# Altium integrated library LIB_Diodes.IntLib: 54 symbols
Pins are listed as number, name and electrical type; pins without a type are passive.

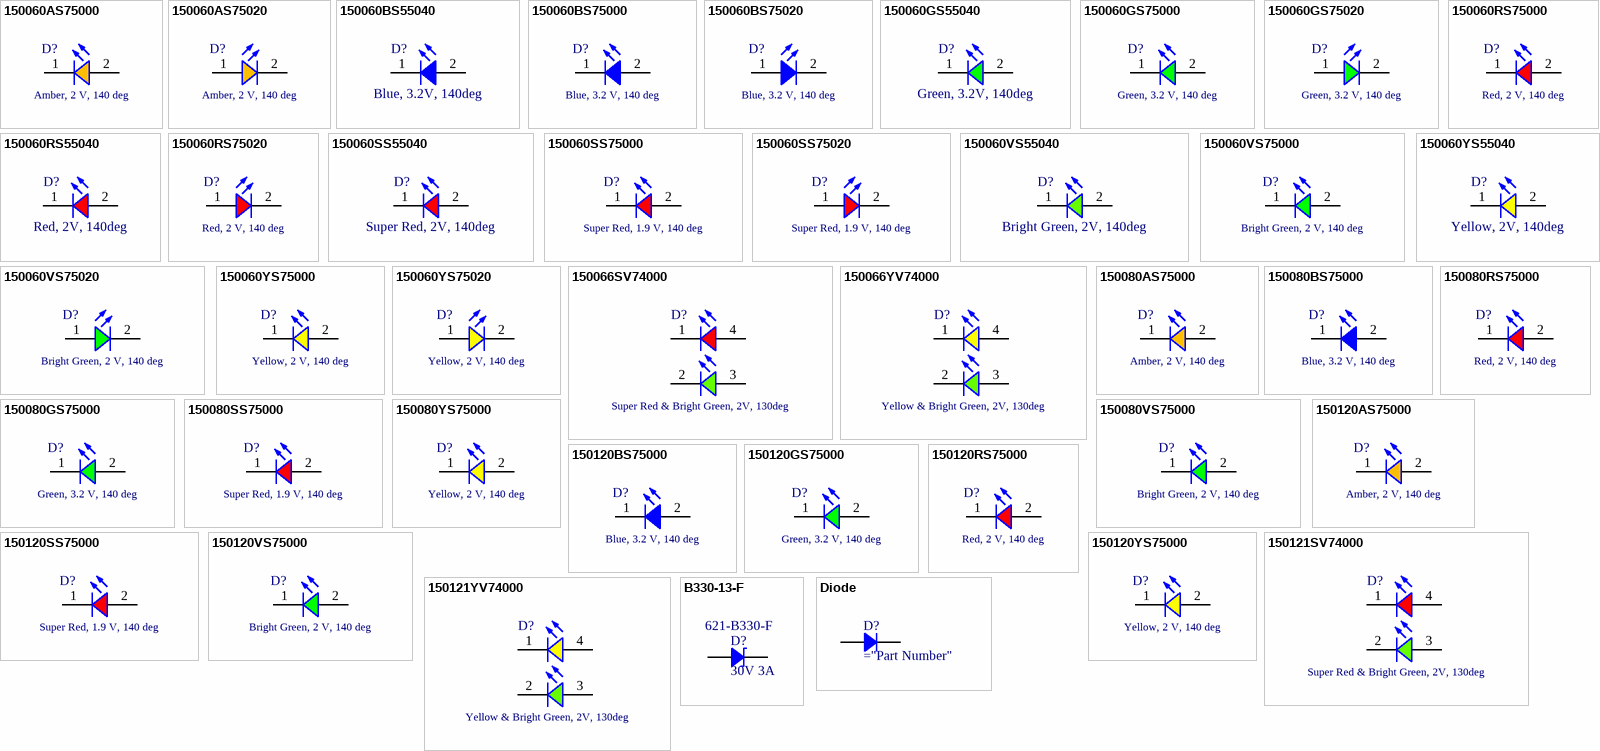
[diagram p0: symbols 150060AS75000 to Diode]

## 150060AS75000
designator D?, comment Amber, 2 V, 140 deg
SMT Mono-color Chip LED Waterclear WL-SMCW, size 0603, Amber, 2 V, 140 deg, 130 mcd; Part Number: 150060AS75000; Forward Voltage: 2 V; Viewing Angle: 140 deg; Peak Wavelength: 610 nm; Dominant Wavelength: 605 nm; Luminous Intensity: 130 mcd; Chip Technology: AlInGaP; ComponentLink1Description: Manufacturer; ComponentLink1URL: http://www.we-online.de; ComponentLink2Description: Datasheet; ComponentLink2URL: https://katalog.we-online.de/led/datasheet/150060AS75000.pdf; Published Date: November 2018; Publisher: Wurth Elektronik; Size: 0603; Operating Temperature: -40 to 85 degC; Emitting Color: Amber; Mounting Technology: SMT; Packaging: Tape and Reel
footprint WL-SMCW_0603_H=0.7
pins: 1 K, 2 A

## 150060AS75020
designator D?, comment Amber, 2 V, 140 deg
SMT Mono-color Chip LED Waterclear WL-SMCW, size 0603, Amber, 2 V, 140 deg, 140 mcd; Part Number: 150060AS75020; Forward Voltage: 2 V; Viewing Angle: 140 deg; Peak Wavelength: 610 nm; Dominant Wavelength: 605 nm; Luminous Intensity: 140 mcd; Chip Technology: AlInGaP; ComponentLink1Description: Manufacturer; ComponentLink1URL: http://www.we-online.de; ComponentLink2Description: Datasheet; ComponentLink2URL: https://katalog.we-online.de/led/datasheet/150060AS75020.pdf; Published Date: November 2018; Publisher: Wurth Elektronik; Size: 0603; Operating Temperature: -40 to 85 degC; Emitting Color: Amber; Mounting Technology: SMT; Packaging: Tape and Reel
footprint WL-SMCW_0603_H=0.25
pins: 1 A, 2 K

## 150060BS55040
designator D?, comment Blue, 3.2V, 140deg
WL-SMCD SMT Mono-color Chip LED Diffused, size 0603, Blue, 3.2V, 140deg; Part Number: 150060BS55040; Luminous Intensity: 80mcd; Dominant Wavelength: 470nm; Peak Wavelength: 465nm; Chip Technology: InGaN; ComponentLink1Description: Manufacturer; ComponentLink1URL: http://www.we-online.de; ComponentLink2Description: Datasheet; ComponentLink2URL: https://katalog.we-online.de/led/datasheet/150060BS55040.pdf; Emitting Color: Blue; Operating Temperature: -40 to +85degC; Mounting Technology: SMT; Forward Voltage: 3.2V; Packaging: Tape and Reel; Published Date: October 2019; Publisher: Wurth Elektronik; Size: 0603; Viewing Angle: 140deg
footprint WL-SMCD_0603
pins: 1 K, 2 A

## 150060BS75000
designator D?, comment Blue, 3.2 V, 140 deg
SMT Mono-color Chip LED Waterclear WL-SMCW, size 0603, Blue, 3.2 V, 140 deg, 145 mcd; Part Number: 150060BS75000; Forward Voltage: 3.2 V; Viewing Angle: 140 deg; Peak Wavelength: 465 nm; Dominant Wavelength: 470 nm; Luminous Intensity: 145 mcd; Chip Technology: InGaN; ComponentLink1Description: Manufacturer; ComponentLink1URL: http://www.we-online.de; ComponentLink2Description: Datasheet; ComponentLink2URL: https://katalog.we-online.de/led/datasheet/150060BS75000.pdf; Published Date: November 2018; Publisher: Wurth Elektronik; Size: 0603; Operating Temperature: -40 to 85 degC; Emitting Color: Blue; Mounting Technology: SMT; Packaging: Tape and Reel
footprint WL-SMCW_0603_H=0.7
pins: 1 K, 2 A

## 150060BS75020
designator D?, comment Blue, 3.2 V, 140 deg
SMT Mono-color Chip LED Waterclear WL-SMCW, size 0603, Blue, 3.2 V, 140 deg, 150 mcd; Part Number: 150060BS75020; Forward Voltage: 3.2 V; Viewing Angle: 140 deg; Peak Wavelength: 465 nm; Dominant Wavelength: 470 nm; Luminous Intensity: 150 mcd; Chip Technology: InGaN; ComponentLink1Description: Manufacturer; ComponentLink1URL: http://www.we-online.de; ComponentLink2Description: Datasheet; ComponentLink2URL: https://katalog.we-online.de/led/datasheet/150060BS75020.pdf; Published Date: November 2018; Publisher: Wurth Elektronik; Size: 0603; Operating Temperature: -40 to 85 degC; Emitting Color: Blue; Mounting Technology: SMT; Packaging: Tape and Reel
footprint WL-SMCW_0603_H=0.25
pins: 1 A, 2 K

## 150060GS55040
designator D?, comment Green, 3.2V, 140deg
WL-SMCD SMT Mono-color Chip LED Diffused, size 0603, Green, 3.2V, 140deg; Part Number: 150060GS55040; Luminous Intensity: 430mcd; Dominant Wavelength: 525nm; Peak Wavelength: 520nm; Chip Technology: InGaN; ComponentLink1Description: Manufacturer; ComponentLink1URL: http://www.we-online.de; ComponentLink2Description: Datasheet; ComponentLink2URL: https://katalog.we-online.de/led/datasheet/150060GS55040.pdf; Emitting Color: Green; Operating Temperature: -40 to +85degC; Mounting Technology: SMT; Forward Voltage: 3.2V; Packaging: Tape and Reel; Published Date: October 2019; Publisher: Wurth Elektronik; Size: 0603; Viewing Angle: 140deg
footprint WL-SMCD_0603
pins: 1 K, 2 A

## 150060GS75000
designator D?, comment Green, 3.2 V, 140 deg
SMT Mono-color Chip LED Waterclear WL-SMCW, size 0603, Green, 3.2 V, 140 deg, 430 mcd; Part Number: 150060GS75000; Forward Voltage: 3.2 V; Viewing Angle: 140 deg; Peak Wavelength: 515 nm; Dominant Wavelength: 525 nm; Luminous Intensity: 430 mcd; Chip Technology: InGaN; ComponentLink1Description: Manufacturer; ComponentLink1URL: http://www.we-online.de; ComponentLink2Description: Datasheet; ComponentLink2URL: https://katalog.we-online.de/led/datasheet/150060GS75000.pdf; Published Date: November 2018; Publisher: Wurth Elektronik; Size: 0603; Operating Temperature: -40 to 85 degC; Emitting Color: Green; Mounting Technology: SMT; Packaging: Tape and Reel
footprint WL-SMCW_0603_H=0.7
pins: 1 K, 2 A

## 150060GS75020
designator D?, comment Green, 3.2 V, 140 deg
SMT Mono-color Chip LED Waterclear WL-SMCW, size 0603, Green, 3.2 V, 140 deg, 700 mcd; Part Number: 150060GS75020; Forward Voltage: 3.2 V; Viewing Angle: 140 deg; Peak Wavelength: 515 nm; Dominant Wavelength: 525 nm; Luminous Intensity: 700 mcd; Chip Technology: InGaN; ComponentLink1Description: Manufacturer; ComponentLink1URL: http://www.we-online.de; ComponentLink2Description: Datasheet; ComponentLink2URL: https://katalog.we-online.de/led/datasheet/150060GS75020.pdf; Published Date: November 2018; Publisher: Wurth Elektronik; Size: 0603; Operating Temperature: -40 to 85 degC; Emitting Color: Green; Mounting Technology: SMT; Packaging: Tape and Reel
footprint WL-SMCW_0603_H=0.25
pins: 1 A, 2 K

## 150060RS55040
designator D?, comment Red, 2V, 140deg
WL-SMCD SMT Mono-color Chip LED Diffused, size 0603, Red, 2V, 140deg; Part Number: 150060RS55040; Luminous Intensity: 90mcd; Dominant Wavelength: 624nm; Peak Wavelength: 632nm; Chip Technology: AlInGaP; ComponentLink1Description: Manufacturer; ComponentLink1URL: http://www.we-online.de; ComponentLink2Description: Datasheet; ComponentLink2URL: https://katalog.we-online.de/led/datasheet/150060RS55040.pdf; Emitting Color: Red; Operating Temperature: -40 to +85degC; Mounting Technology: SMT; Forward Voltage: 2V; Packaging: Tape and Reel; Published Date: October 2019; Publisher: Wurth Elektronik; Size: 0603; Viewing Angle: 140deg
footprint WL-SMCD_0603
pins: 1 K, 2 A

## 150060RS75000
designator D?, comment Red, 2 V, 140 deg
SMT Mono-color Chip LED Waterclear WL-SMCW, size 0603, Red, 2 V, 140 deg, 250 mcd; Part Number: 150060RS75000; Forward Voltage: 2 V; Viewing Angle: 140 deg; Peak Wavelength: 630 nm; Dominant Wavelength: 625 nm; Luminous Intensity: 250 mcd; Chip Technology: AlInGaP; ComponentLink1Description: Manufacturer; ComponentLink1URL: http://www.we-online.de; ComponentLink2Description: Datasheet; ComponentLink2URL: https://katalog.we-online.de/led/datasheet/150060RS75000.pdf; Published Date: November 2018; Publisher: Wurth Elektronik; Size: 0603; Operating Temperature: -40 to 85 degC; Emitting Color: Red; Mounting Technology: SMT; Packaging: Tape and Reel
footprint WL-SMCW_0603_H=0.7
pins: 1 K, 2 A

## 150060RS75020
designator D?, comment Red, 2 V, 140 deg
SMT Mono-color Chip LED Waterclear WL-SMCW, size 0603, Red, 2 V, 140 deg, 100 mcd; Part Number: 150060RS75020; Forward Voltage: 2 V; Viewing Angle: 140 deg; Peak Wavelength: 630 nm; Dominant Wavelength: 625 nm; Luminous Intensity: 100 mcd; Chip Technology: AlInGaP; ComponentLink1Description: Manufacturer; ComponentLink1URL: http://www.we-online.de; ComponentLink2Description: Datasheet; ComponentLink2URL: https://katalog.we-online.de/led/datasheet/150060RS75020.pdf; Published Date: November 2018; Publisher: Wurth Elektronik; Size: 0603; Operating Temperature: -40 to 85 degC; Emitting Color: Red; Mounting Technology: SMT; Packaging: Tape and Reel
footprint WL-SMCW_0603_H=0.25
pins: 1 A, 2 K

## 150060SS55040
designator D?, comment Super Red, 2V, 140deg
WL-SMCD SMT Mono-color Chip LED Diffused, size 0603, Super Red, 2V, 140deg; Part Number: 150060SS55040; Luminous Intensity: 70mcd; Dominant Wavelength: 630nm; Peak Wavelength: 645nm; Chip Technology: AlInGaP; ComponentLink1Description: Manufacturer; ComponentLink1URL: http://www.we-online.de; ComponentLink2Description: Datasheet; ComponentLink2URL: https://katalog.we-online.de/led/datasheet/150060SS55040.pdf; Emitting Color: Super Red; Operating Temperature: -40 to +85degC; Mounting Technology: SMT; Forward Voltage: 2V; Packaging: Tape and Reel; Published Date: October 2019; Publisher: Wurth Elektronik; Size: 0603; Viewing Angle: 140deg
footprint WL-SMCD_0603
pins: 1 K, 2 A

## 150060SS75000
designator D?, comment Super Red, 1.9 V, 140 deg
SMT Mono-color Chip LED Waterclear WL-SMCW, size 0603, Super Red, 1.9 V, 140 deg, 60 mcd; Part Number: 150060SS75000; Forward Voltage: 1.9 V; Viewing Angle: 140 deg; Peak Wavelength: 645 nm; Dominant Wavelength: 630 nm; Luminous Intensity: 60 mcd; Chip Technology: AlInGaP; ComponentLink1Description: Manufacturer; ComponentLink1URL: http://www.we-online.de; ComponentLink2Description: Datasheet; ComponentLink2URL: https://katalog.we-online.de/led/datasheet/150060SS75000.pdf; Published Date: November 2018; Publisher: Wurth Elektronik; Size: 0603; Operating Temperature: -40 to 85 degC; Emitting Color: Super Red; Mounting Technology: SMT; Packaging: Tape and Reel
footprint WL-SMCW_0603_H=0.7
pins: 1 K, 2 A

## 150060SS75020
designator D?, comment Super Red, 1.9 V, 140 deg
SMT Mono-color Chip LED Waterclear WL-SMCW, size 0603, Super Red, 1.9 V, 140 deg, 70 mcd; Part Number: 150060SS75020; Forward Voltage: 1.9 V; Viewing Angle: 140 deg; Peak Wavelength: 645 nm; Dominant Wavelength: 630 nm; Luminous Intensity: 70 mcd; Chip Technology: AlInGaP; ComponentLink1Description: Manufacturer; ComponentLink1URL: http://www.we-online.de; ComponentLink2Description: Datasheet; ComponentLink2URL: https://katalog.we-online.de/led/datasheet/150060SS75020.pdf; Published Date: November 2018; Publisher: Wurth Elektronik; Size: 0603; Operating Temperature: -40 to 85 degC; Emitting Color: Super Red; Mounting Technology: SMT; Packaging: Tape and Reel
footprint WL-SMCW_0603_H=0.25
pins: 1 A, 2 K

## 150060VS55040
designator D?, comment Bright Green, 2V, 140deg
WL-SMCD SMT Mono-color Chip LED Diffused, size 0603, Bright Green, 2V, 140deg; Part Number: 150060VS55040; Luminous Intensity: 60mcd; Dominant Wavelength: 573nm; Peak Wavelength: 575nm; Chip Technology: AlInGaP; ComponentLink1Description: Manufacturer; ComponentLink1URL: http://www.we-online.de; ComponentLink2Description: Datasheet; ComponentLink2URL: https://katalog.we-online.de/led/datasheet/150060VS55040.pdf; Emitting Color: Bright Green; Operating Temperature: -40 to +85degC; Mounting Technology: SMT; Forward Voltage: 2V; Packaging: Tape and Reel; Published Date: October 2019; Publisher: Wurth Elektronik; Size: 0603; Viewing Angle: 140deg
footprint WL-SMCD_0603
pins: 1 K, 2 A

## 150060VS75000
designator D?, comment Bright Green, 2 V, 140 deg
SMT Mono-color Chip LED Waterclear WL-SMCW, size 0603, Bright Green, 2 V, 140 deg, 40 mcd; Part Number: 150060VS75000; Forward Voltage: 2 V; Viewing Angle: 140 deg; Peak Wavelength: 572 nm; Dominant Wavelength: 570 nm; Luminous Intensity: 40 mcd; Chip Technology: AlInGaP; ComponentLink1Description: Manufacturer; ComponentLink1URL: http://www.we-online.de; ComponentLink2Description: Datasheet; ComponentLink2URL: https://katalog.we-online.de/led/datasheet/150060VS75000.pdf; Published Date: November 2018; Publisher: Wurth Elektronik; Size: 0603; Operating Temperature: -40 to 85 degC; Emitting Color: Bright Green; Mounting Technology: SMT; Packaging: Tape and Reel
footprint WL-SMCW_0603_H=0.7
pins: 1 K, 2 A

## 150060VS75020
designator D?, comment Bright Green, 2 V, 140 deg
SMT Mono-color Chip LED Waterclear WL-SMCW, size 0603, Bright Green, 2 V, 140 deg, 50 mcd; Part Number: 150060VS75020; Forward Voltage: 2 V; Viewing Angle: 140 deg; Peak Wavelength: 572 nm; Dominant Wavelength: 570 nm; Luminous Intensity: 50 mcd; Chip Technology: AlInGaP; ComponentLink1Description: Manufacturer; ComponentLink1URL: http://www.we-online.de; ComponentLink2Description: Datasheet; ComponentLink2URL: https://katalog.we-online.de/led/datasheet/150060VS75020.pdf; Published Date: November 2018; Publisher: Wurth Elektronik; Size: 0603; Operating Temperature: -40 to 85 degC; Emitting Color: Bright Green; Mounting Technology: SMT; Packaging: Tape and Reel
footprint WL-SMCW_0603_H=0.25
pins: 1 A, 2 K

## 150060YS55040
designator D?, comment Yellow, 2V, 140deg
WL-SMCD SMT Mono-color Chip LED Diffused, size 0603, Yellow, 2V, 140deg; Part Number: 150060YS55040; Luminous Intensity: 100mcd; Dominant Wavelength: 589nm; Peak Wavelength: 591nm; Chip Technology: AlInGaP; ComponentLink1Description: Manufacturer; ComponentLink1URL: http://www.we-online.de; ComponentLink2Description: Datasheet; ComponentLink2URL: https://katalog.we-online.de/led/datasheet/150060YS55040.pdf; Emitting Color: Yellow; Operating Temperature: -40 to +85degC; Mounting Technology: SMT; Forward Voltage: 2V; Packaging: Tape and Reel; Published Date: October 2019; Publisher: Wurth Elektronik; Size: 0603; Viewing Angle: 140deg
footprint WL-SMCD_0603
pins: 1 K, 2 A

## 150060YS75000
designator D?, comment Yellow, 2 V, 140 deg
SMT Mono-color Chip LED Waterclear WL-SMCW, size 0603, Yellow, 2 V, 140 deg, 120 mcd; Part Number: 150060YS75000; Forward Voltage: 2 V; Viewing Angle: 140 deg; Peak Wavelength: 595 nm; Dominant Wavelength: 590 nm; Luminous Intensity: 120 mcd; Chip Technology: AlInGaP; ComponentLink1Description: Manufacturer; ComponentLink1URL: http://www.we-online.de; ComponentLink2Description: Datasheet; ComponentLink2URL: https://katalog.we-online.de/led/datasheet/150060YS75000.pdf; Published Date: November 2018; Publisher: Wurth Elektronik; Size: 0603; Operating Temperature: -40 to 85 degC; Emitting Color: Yellow; Mounting Technology: SMT; Packaging: Tape and Reel
footprint WL-SMCW_0603_H=0.7
pins: 1 K, 2 A

## 150060YS75020
designator D?, comment Yellow, 2 V, 140 deg
SMT Mono-color Chip LED Waterclear WL-SMCW, size 0603, Yellow, 2 V, 140 deg, 130 mcd; Part Number: 150060YS75020; Forward Voltage: 2 V; Viewing Angle: 140 deg; Peak Wavelength: 595 nm; Dominant Wavelength: 590 nm; Luminous Intensity: 130 mcd; Chip Technology: AlInGaP; ComponentLink1Description: Manufacturer; ComponentLink1URL: http://www.we-online.de; ComponentLink2Description: Datasheet; ComponentLink2URL: https://katalog.we-online.de/led/datasheet/150060YS75020.pdf; Published Date: November 2018; Publisher: Wurth Elektronik; Size: 0603; Operating Temperature: -40 to 85 degC; Emitting Color: Yellow; Mounting Technology: SMT; Packaging: Tape and Reel
footprint WL-SMCW_0603_H=0.25
pins: 1 A, 2 K

## 150066SV74000
designator D?, comment Super Red & Bright Green, 2V, 130deg
WL-SBCW SMD Bi-color Chip LED Waterclear, size 0606, Super Red & Bright Green, 2V, 130deg; Part Number: 150066SV74000; Peak Wavelength: 645nm@Super Red, 572nm@Bright Green; Dominant Wavelength: 630nm@Super Red, 570nm@Bright Green; Luminous Intensity: 55mcd@Super Red, 30mcd@Bright Green; Chip Technology: AlInGaP; ComponentLink1Description: Manufacturer; ComponentLink1URL: http://www.we-online.de; ComponentLink2Description: Datasheet; ComponentLink2URL: https://katalog.we-online.com/led/datasheet/150066SV74000.pdf; Packaging: Tape and Reel; Published Date: July 2019; Publisher: Wurth Elektronik; Forward Voltage: 2V; Size: 0606; Operating Temperature: -40 to +85degC; Emitting Color: Super Red & Bright Green; Mounting Technology: SMT; Viewing Angle: 130deg
footprint WL-SBCW_0606 (SMD Bi-color Chip LED Waterclear, body 1.6x1.6mm)
pins: 1 K, 2 K, 3 A, 4 A

## 150066YV74000
designator D?, comment Yellow & Bright Green, 2V, 130deg
WL-SBCW SMD Bi-color Chip LED Waterclear, size 0606, Yellow & Bright Green, 2V, 130deg; Part Number: 150066YV74000; Peak Wavelength: 572nm@Bright Green, 595nm@Yellow; Dominant Wavelength: 570nm@Bright Green, 590nm@Yellow; Luminous Intensity: 30mcd@Bright Green, 120mcd@Yellow; Chip Technology: AlInGaP; ComponentLink1Description: Manufacturer; ComponentLink1URL: http://www.we-online.de; ComponentLink2Description: Datasheet; ComponentLink2URL: https://katalog.we-online.com/led/datasheet/150066YV74000.pdf; Packaging: Tape and Reel; Published Date: July 2019; Publisher: Wurth Elektronik; Forward Voltage: 2V; Size: 0606; Operating Temperature: -40 to +85degC; Emitting Color: Yellow & Bright Green; Mounting Technology: SMT; Viewing Angle: 130deg
footprint WL-SBCW_0606 (SMD Bi-color Chip LED Waterclear, body 1.6x1.6mm)
pins: 1 K, 2 K, 3 A, 4 A

## 150080AS75000
designator D?, comment Amber, 2 V, 140 deg
SMT Mono-color Chip LED Waterclear WL-SMCW, size 0805, Amber, 2 V, 140 deg, 130 mcd; Part Number: 150080AS75000; Forward Voltage: 2 V; Viewing Angle: 140 deg; Peak Wavelength: 610 nm; Dominant Wavelength: 605 nm; Luminous Intensity: 130 mcd; Chip Technology: AlInGaP; ComponentLink1Description: Manufacturer; ComponentLink1URL: http://www.we-online.de; ComponentLink2Description: Datasheet; ComponentLink2URL: https://katalog.we-online.de/led/datasheet/150080AS75000.pdf; Published Date: November 2018; Publisher: Wurth Elektronik; Size: 0805; Operating Temperature: -40 to 85 degC; Emitting Color: Amber; Mounting Technology: SMT; Packaging: Tape and Reel
footprint WL-SMCW_0805
pins: 1 K, 2 A

## 150080BS75000
designator D?, comment Blue, 3.2 V, 140 deg
SMT Mono-color Chip LED Waterclear WL-SMCW, size 0805, Blue, 3.2 V, 140 deg, 145 mcd; Part Number: 150080BS75000; Forward Voltage: 3.2 V; Viewing Angle: 140 deg; Peak Wavelength: 465 nm; Dominant Wavelength: 470 nm; Luminous Intensity: 145 mcd; Chip Technology: InGaN; ComponentLink1Description: Manufacturer; ComponentLink1URL: http://www.we-online.de; ComponentLink2Description: Datasheet; ComponentLink2URL: https://katalog.we-online.de/led/datasheet/150080BS75000.pdf; Published Date: November 2018; Publisher: Wurth Elektronik; Size: 0805; Operating Temperature: -40 to 85 degC; Emitting Color: Blue; Mounting Technology: SMT; Packaging: Tape and Reel
footprint WL-SMCW_0805
pins: 1 K, 2 A

## 150080GS75000
designator D?, comment Green, 3.2 V, 140 deg
SMT Mono-color Chip LED Waterclear WL-SMCW, size 0805, Green, 3.2 V, 140 deg, 450 mcd; Part Number: 150080GS75000; Forward Voltage: 3.2 V; Viewing Angle: 140 deg; Peak Wavelength: 515 nm; Dominant Wavelength: 525 nm; Luminous Intensity: 450 mcd; Chip Technology: InGaN; ComponentLink1Description: Manufacturer; ComponentLink1URL: http://www.we-online.de; ComponentLink2Description: Datasheet; ComponentLink2URL: https://katalog.we-online.de/led/datasheet/150080GS75000.pdf; Published Date: November 2018; Publisher: Wurth Elektronik; Size: 0805; Operating Temperature: -40 to 85 degC; Emitting Color: Green; Mounting Technology: SMT; Packaging: Tape and Reel
footprint WL-SMCW_0805
pins: 1 K, 2 A

## 150080RS75000
designator D?, comment Red, 2 V, 140 deg
SMT Mono-color Chip LED Waterclear WL-SMCW, size 0805, Red, 2 V, 140 deg, 150 mcd; Part Number: 150080RS75000; Forward Voltage: 2 V; Viewing Angle: 140 deg; Peak Wavelength: 630 nm; Dominant Wavelength: 625 nm; Luminous Intensity: 150 mcd; Chip Technology: AlInGaP; ComponentLink1Description: Manufacturer; ComponentLink1URL: http://www.we-online.de; ComponentLink2Description: Datasheet; ComponentLink2URL: https://katalog.we-online.de/led/datasheet/150080RS75000.pdf; Published Date: November 2018; Publisher: Wurth Elektronik; Size: 0805; Operating Temperature: -40 to 85 degC; Emitting Color: Red; Mounting Technology: SMT; Packaging: Tape and Reel
footprint WL-SMCW_0805
pins: 1 K, 2 A

## 150080SS75000
designator D?, comment Super Red, 1.9 V, 140 deg
SMT Mono-color Chip LED Waterclear WL-SMCW, size 0805, Super Red, 1.9 V, 140 deg, 60 mcd; Part Number: 150080SS75000; Forward Voltage: 1.9 V; Viewing Angle: 140 deg; Peak Wavelength: 645 nm; Dominant Wavelength: 630 nm; Luminous Intensity: 60 mcd; Chip Technology: AlInGaP; ComponentLink1Description: Manufacturer; ComponentLink1URL: http://www.we-online.de; ComponentLink2Description: Datasheet; ComponentLink2URL: https://katalog.we-online.de/led/datasheet/150080SS75000.pdf; Published Date: November 2018; Publisher: Wurth Elektronik; Size: 0805; Operating Temperature: -40 to 85 degC; Emitting Color: Super Red; Mounting Technology: SMT; Packaging: Tape and Reel
footprint WL-SMCW_0805
pins: 1 K, 2 A

## 150080VS75000
designator D?, comment Bright Green, 2 V, 140 deg
SMT Mono-color Chip LED Waterclear WL-SMCW, size 0805, Bright Green, 2 V, 140 deg, 40 mcd; Part Number: 150080VS75000; Forward Voltage: 2 V; Viewing Angle: 140 deg; Peak Wavelength: 572 nm; Dominant Wavelength: 570 nm; Luminous Intensity: 40 mcd; Chip Technology: AlInGaP; ComponentLink1Description: Manufacturer; ComponentLink1URL: http://www.we-online.de; ComponentLink2Description: Datasheet; ComponentLink2URL: https://katalog.we-online.de/led/datasheet/150080VS75000.pdf; Published Date: November 2018; Publisher: Wurth Elektronik; Size: 0805; Operating Temperature: -40 to 85 degC; Emitting Color: Bright Green; Mounting Technology: SMT; Packaging: Tape and Reel
footprint WL-SMCW_0805
pins: 1 K, 2 A

## 150080YS75000
designator D?, comment Yellow, 2 V, 140 deg
SMT Mono-color Chip LED Waterclear WL-SMCW, size 0805, Yellow, 2 V, 140 deg, 120 mcd; Part Number: 150080YS75000; Forward Voltage: 2 V; Viewing Angle: 140 deg; Peak Wavelength: 595 nm; Dominant Wavelength: 590 nm; Luminous Intensity: 120 mcd; Chip Technology: AlInGaP; ComponentLink1Description: Manufacturer; ComponentLink1URL: http://www.we-online.de; ComponentLink2Description: Datasheet; ComponentLink2URL: https://katalog.we-online.de/led/datasheet/150080YS75000.pdf; Published Date: November 2018; Publisher: Wurth Elektronik; Size: 0805; Operating Temperature: -40 to 85 degC; Emitting Color: Yellow; Mounting Technology: SMT; Packaging: Tape and Reel
footprint WL-SMCW_0805
pins: 1 K, 2 A

## 150120AS75000
designator D?, comment Amber, 2 V, 140 deg
SMT Mono-color Chip LED Waterclear WL-SMCW, size 1206, Amber, 2 V, 140 deg, 140 mcd; Part Number: 150120AS75000; Forward Voltage: 2 V; Viewing Angle: 140 deg; Peak Wavelength: 610 nm; Dominant Wavelength: 605 nm; Luminous Intensity: 140 mcd; Chip Technology: AlInGaP; ComponentLink1Description: Manufacturer; ComponentLink1URL: http://www.we-online.de; ComponentLink2Description: Datasheet; ComponentLink2URL: https://katalog.we-online.de/led/datasheet/150120AS75000.pdf; Published Date: November 2018; Publisher: Wurth Elektronik; Size: 1206; Operating Temperature: -40 to 85 degC; Emitting Color: Amber; Mounting Technology: SMT; Packaging: Tape and Reel
footprint WL-SMCW_1206
pins: 1 K, 2 A

## 150120BS75000
designator D?, comment Blue, 3.2 V, 140 deg
SMT Mono-color Chip LED Waterclear WL-SMCW, size 1206, Blue, 3.2 V, 140 deg, 145 mcd; Part Number: 150120BS75000; Forward Voltage: 3.2 V; Viewing Angle: 140 deg; Peak Wavelength: 465 nm; Dominant Wavelength: 470 nm; Luminous Intensity: 145 mcd; Chip Technology: InGaN; ComponentLink1Description: Manufacturer; ComponentLink1URL: http://www.we-online.de; ComponentLink2Description: Datasheet; ComponentLink2URL: https://katalog.we-online.de/led/datasheet/150120BS75000.pdf; Published Date: November 2018; Publisher: Wurth Elektronik; Size: 1206; Operating Temperature: -40 to 85 degC; Emitting Color: Blue; Mounting Technology: SMT; Packaging: Tape and Reel
footprint WL-SMCW_1206
pins: 1 K, 2 A

## 150120GS75000
designator D?, comment Green, 3.2 V, 140 deg
SMT Mono-color Chip LED Waterclear WL-SMCW, size 1206, Green, 3.2 V, 140 deg, 450 mcd; Part Number: 150120GS75000; Forward Voltage: 3.2 V; Viewing Angle: 140 deg; Peak Wavelength: 515 nm; Dominant Wavelength: 525 nm; Luminous Intensity: 450 mcd; Chip Technology: InGaN; ComponentLink1Description: Manufacturer; ComponentLink1URL: http://www.we-online.de; ComponentLink2Description: Datasheet; ComponentLink2URL: https://katalog.we-online.de/led/datasheet/150120GS75000.pdf; Published Date: November 2018; Publisher: Wurth Elektronik; Size: 1206; Operating Temperature: -40 to 85 degC; Emitting Color: Green; Mounting Technology: SMT; Packaging: Tape and Reel
footprint WL-SMCW_1206
pins: 1 K, 2 A

## 150120RS75000
designator D?, comment Red, 2 V, 140 deg
SMT Mono-color Chip LED Waterclear WL-SMCW, size 1206, Red, 2 V, 140 deg, 150 mcd; Part Number: 150120RS75000; Forward Voltage: 2 V; Viewing Angle: 140 deg; Peak Wavelength: 630 nm; Dominant Wavelength: 625 nm; Luminous Intensity: 150 mcd; Chip Technology: AlInGaP; ComponentLink1Description: Manufacturer; ComponentLink1URL: http://www.we-online.de; ComponentLink2Description: Datasheet; ComponentLink2URL: https://katalog.we-online.de/led/datasheet/150120RS75000.pdf; Published Date: November 2018; Publisher: Wurth Elektronik; Size: 1206; Operating Temperature: -40 to 85 degC; Emitting Color: Red; Mounting Technology: SMT; Packaging: Tape and Reel
footprint WL-SMCW_1206
pins: 1 K, 2 A

## 150120SS75000
designator D?, comment Super Red, 1.9 V, 140 deg
SMT Mono-color Chip LED Waterclear WL-SMCW, size 1206, Super Red, 1.9 V, 140 deg, 60 mcd; Part Number: 150120SS75000; Forward Voltage: 1.9 V; Viewing Angle: 140 deg; Peak Wavelength: 645 nm; Dominant Wavelength: 630 nm; Luminous Intensity: 60 mcd; Chip Technology: AlInGaP; ComponentLink1Description: Manufacturer; ComponentLink1URL: http://www.we-online.de; ComponentLink2Description: Datasheet; ComponentLink2URL: https://katalog.we-online.de/led/datasheet/150120SS75000.pdf; Published Date: November 2018; Publisher: Wurth Elektronik; Size: 1206; Operating Temperature: -40 to 85 degC; Emitting Color: Super Red; Mounting Technology: SMT; Packaging: Tape and Reel
footprint WL-SMCW_1206
pins: 1 K, 2 A

## 150120VS75000
designator D?, comment Bright Green, 2 V, 140 deg
SMT Mono-color Chip LED Waterclear WL-SMCW, size 1206, Bright Green, 2 V, 140 deg, 40 mcd; Part Number: 150120VS75000; Forward Voltage: 2 V; Viewing Angle: 140 deg; Peak Wavelength: 572 nm; Dominant Wavelength: 570 nm; Luminous Intensity: 40 mcd; Chip Technology: AlInGaP; ComponentLink1Description: Manufacturer; ComponentLink1URL: http://www.we-online.de; ComponentLink2Description: Datasheet; ComponentLink2URL: https://katalog.we-online.de/led/datasheet/150120VS75000.pdf; Published Date: November 2018; Publisher: Wurth Elektronik; Size: 1206; Operating Temperature: -40 to 85 degC; Emitting Color: Bright Green; Mounting Technology: SMT; Packaging: Tape and Reel
footprint WL-SMCW_1206
pins: 1 K, 2 A

## 150120YS75000
designator D?, comment Yellow, 2 V, 140 deg
SMT Mono-color Chip LED Waterclear WL-SMCW, size 1206, Yellow, 2 V, 140 deg, 120 mcd; Part Number: 150120YS75000; Forward Voltage: 2 V; Viewing Angle: 140 deg; Peak Wavelength: 595 nm; Dominant Wavelength: 590 nm; Luminous Intensity: 120 mcd; Chip Technology: AlInGaP; ComponentLink1Description: Manufacturer; ComponentLink1URL: http://www.we-online.de; ComponentLink2Description: Datasheet; ComponentLink2URL: https://katalog.we-online.de/led/datasheet/150120YS75000.pdf; Published Date: November 2018; Publisher: Wurth Elektronik; Size: 1206; Operating Temperature: -40 to 85 degC; Emitting Color: Yellow; Mounting Technology: SMT; Packaging: Tape and Reel
footprint WL-SMCW_1206
pins: 1 K, 2 A

## 150121SV74000
designator D?, comment Super Red & Bright Green, 2V, 130deg
WL-SBCW SMD Bi-color Chip LED Waterclear, size 1210, Super Red & Bright Green, 2V, 130deg; Part Number: 150121SV74000; Peak Wavelength: 645nm@Super Red, 572nm@Bright Green; Dominant Wavelength: 630nm@Super Red, 570nm@Bright Green; Luminous Intensity: 55mcd@Super Red, 30mcd@Bright Green; Chip Technology: AlInGaP; ComponentLink1Description: Manufacturer; ComponentLink1URL: http://www.we-online.de; ComponentLink2Description: Datasheet; ComponentLink2URL: https://katalog.we-online.com/led/datasheet/150121SV74000.pdf; Packaging: Tape and Reel; Published Date: July 2019; Publisher: Wurth Elektronik; Forward Voltage: 2V; Size: 1210; Operating Temperature: -40 to +85degC; Emitting Color: Super Red & Bright Green; Mounting Technology: SMT; Viewing Angle: 130deg
footprint WL-SBCW_1210 (SMD Bi-color Chip LED Waterclear, body 3.2x2.7mm)
pins: 1 K, 2 K, 3 A, 4 A

## 150121YV74000
designator D?, comment Yellow & Bright Green, 2V, 130deg
WL-SBCW SMD Bi-color Chip LED Waterclear, size 1210, Yellow & Bright Green, 2V, 130deg; Part Number: 150121YV74000; Peak Wavelength: 572nm@Bright Green, 595nm@Yellow; Dominant Wavelength: 570nm@Bright Green, 590nm@Yellow; Luminous Intensity: 40mcd@Bright Green, 120mcd@Yellow; Chip Technology: AlInGaP; ComponentLink1Description: Manufacturer; ComponentLink1URL: http://www.we-online.de; ComponentLink2Description: Datasheet; ComponentLink2URL: https://katalog.we-online.com/led/datasheet/150121YV74000.pdf; Packaging: Tape and Reel; Published Date: July 2019; Publisher: Wurth Elektronik; Forward Voltage: 2V; Size: 1210; Operating Temperature: -40 to +85degC; Emitting Color: Yellow & Bright Green; Mounting Technology: SMT; Viewing Angle: 130deg
footprint WL-SBCW_1210 (SMD Bi-color Chip LED Waterclear, body 3.2x2.7mm)
pins: 1 K, 2 K, 3 A, 4 A

## B330-13-F
designator D?, comment 30V 3A  Supplier Part Number 1: 621-B330-F
Schottky Diodes & Rectifiers 30V 3A; Supplier 1: Mouser
footprint DO214AB SMC (Molded Diode, 2-Leads, Body 6.85x5.90mm, IPC Medium Density)
pins: 1, 2

## Diode
designator D?
Rectifier Diode
pins: 1, 2

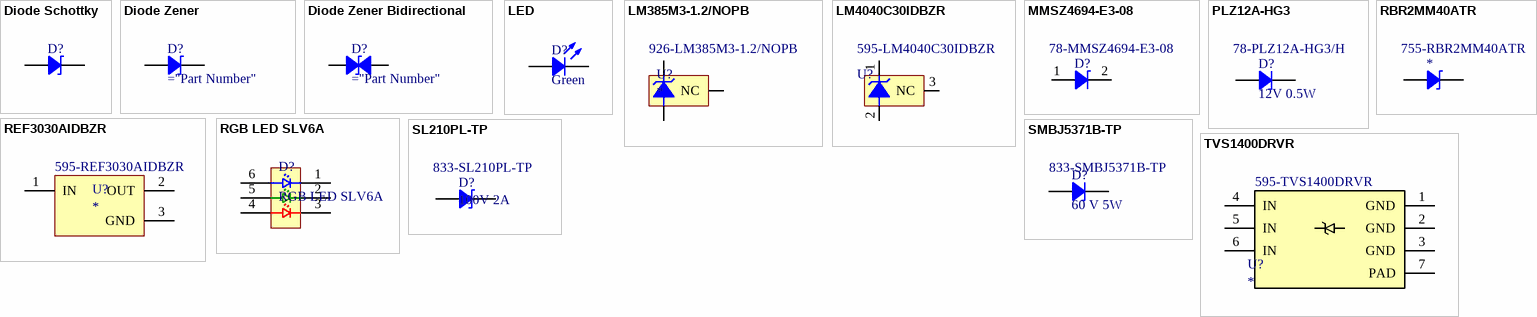
[diagram p1: symbols Diode Schottky to TVS1400DRVR]

## Diode Schottky
designator D?
Zener Diode
footprint SOD-123-2-425-04_V (SOD, 2-Leads, Body 2.69x1.6mm)
footprint DO214AA SMB (Molded Diode, 2-Leads, Body 4.31x3.62mm, IPC Medium Density)
footprint DO214AB SMC (Molded Diode, 2-Leads, Body 6.85x5.90mm, IPC Medium Density)
pins: 1, 2

## Diode Zener
designator D?
Zener Diode
footprint SOD-123-2-425-04_V (SOD, 2-Leads, Body 2.69x1.6mm)
footprint DO214AA SMB (Molded Diode, 2-Leads, Body 4.31x3.62mm, IPC Medium Density)
pins: 1, 2

## Diode Zener Bidirectional
designator D?
Bidirectional Zener Diode
pins: 1, 2

## LED
designator D?, comment Green
Chip LED; Value: Green
pins: 1, 2

## LM385M3-1.2/NOPB
designator U?  Supplier Part Number 1: 926-LM385M3-1.2/NOPB
Texas Instruments LM385M3-1.2/NOPB, Fixed Shunt Voltage Reference 1.235V, 2.0 %, 3-Pin SOT-23; Manufacturer: TI National Semiconductor; Max Output Current: 20mA; Tolerance: 2%; Temperature Coefficient: 150ppm/°C; Nominal Supply Current: 10uA; Current Rating: 10mA; Reference Type: Shunt,Fixed; Supplier 1: Mouser; Manufacturer Part Number: LM385M3-1.2/NOPB; RoHS: Yes; Category: Voltage References; Stock 1: 13899; Pricing 1: 1=1,12000, 10=0,96000, 100=0,73600, 500=0,65000, 1000=0,51300, 2000=0,45500 (USD); Mount: Surface Mount; Case/Package: SOT-23; Number of Pins: 3; Min Operating Temperature: 0°C; Max Operating Temperature: 70°C; Output Voltage: 1.235V; Packaging: Tape and Reel; Max Input Voltage: 1.235V; Package Quantity: 1000; Reference Voltage: 1.235V; Max Output Voltage: 1.235V; Output Current: 20mA; Length: 2.92mm; Height: 0.93mm; Width: 1.3mm; Radiation Hardening: No; REACH SVHC: No SVHC; Lead Free: Lead Free; ComponentLink1URL: https://datasheet.ciiva.com/27090/900893-27090338.pdf?src-supplier=Jameco; ComponentLink1Description: https://datasheet.ciiva.com/27090/900893-27090338.pdf?src-supplier=Jameco; ComponentLink2URL: https://datasheet.ciiva.com/2007/lm185-1-2-n-2007714.pdf?src-supplier=Digi-Key; ComponentLink2Description: https://datasheet.ciiva.com/2007/lm185-1-2-n-2007714.pdf?src-supplier=Digi-Key; ComponentLink3URL: https://datasheet.ciiva.com/2007/lm185-1-2-n-2007715.pdf?src-supplier=Digi-Key; ComponentLink3Description: https://datasheet.ciiva.com/2007/lm185-1-2-n-2007715.pdf?src-supplier=Digi-Key; ComponentLink4URL: https://datasheet.ciiva.com/2007/lm185-1-2-n-2007716.pdf?src-supplier=Digi-Key; ComponentLink4Description: https://datasheet.ciiva.com/2007/lm185-1-2-n-2007716.pdf?src-supplier=Digi-Key; ComponentLink5URL: https://datasheet.ciiva.com/16467/lm285-1-2-n-16467434.pdf?src-supplier=Avnet+Asia; ComponentLink5Description: https://datasheet.ciiva.com/16467/lm285-1-2-n-16467434.pdf?src-supplier=Avnet+Asia; ComponentLink6URL: https://datasheet.ciiva.com/14151/lm385x-1-2-eng-tds-14151931.pdf?src-supplier=Distrelec; ComponentLink6Description: https://datasheet.ciiva.com/14151/lm385x-1-2-eng-tds-14151931.pdf?src-supplier=Distrelec; ComponentLink7URL: https://datasheet.ciiva.com/3235/lm285-1-2-n-3235358.pdf?src-supplier=Avnet; ComponentLink7Description: https://datasheet.ciiva.com/3235/lm285-1-2-n-3235358.pdf?src-supplier=Avnet
footprint DBZ0003A_L (SOT23, 3-Leads, Body 3.04x1.4mm, Pitch 0.95mm, IPC High Density)
footprint DBZ0003A_M (SOT23, 3-Leads, Body 3.04x1.4mm, Pitch 0.95mm, IPC Low Density)
footprint DBZ0003A_N (SOT23, 3-Leads, Body 3.04x1.4mm, Pitch 0.95mm, IPC Medium Density)
pins: 1 +V, 2 -V, 3 NC

## LM4040C30IDBZR
designator U?  Supplier Part Number 1: 595-LM4040C30IDBZR  (hidden comment: *)
TEXAS INSTRUMENTS - LM4040C30IDBZR - VOLTAGE REF, SHUNT, 3V, SOT-23-3; Max Output Current: 15mA; Tolerance: 0.5%; Temperature Coefficient: 100ppm/°C; Cathode Current: 77uA; Reference Type: Shunt,Fixed; Number of Channels: 1; Supplier 1: Mouser; Manufacturer: Texas Instruments; Manufacturer Part Number: LM4040C30IDBZR; RoHS: Yes; Category: Voltage References; Stock 1: 9103; Pricing 1: 1=0,89000, 10=0,74000, 100=0,47600, 1000=0,38100, 2000=0,34600, 3000=0,32200 (USD); Case/Package: SOT-23; Number of Pins: 3; Weight: 0.050717oz; Min Operating Temperature: -40°C; Max Operating Temperature: 125°C; Output Voltage: 3V; Package Quantity: 3000; Packaging: Tape and Reel; Output Current: 15mA; Reference Voltage: 3V; Max Output Voltage: 3V; Length: 2.92mm; Height: 1mm; Width: 1.3mm; Radiation Hardening: No; Lead Free: Lead Free; REACH SVHC: No SVHC; ComponentLink1URL: https://datasheet.ciiva.com/2006/lm4040d82-2006544.pdf?src-supplier=Digi-Key; ComponentLink1Description: https://datasheet.ciiva.com/2006/lm4040d82-2006544.pdf?src-supplier=Digi-Key; ComponentLink2URL: https://datasheet.ciiva.com/2006/lm4040d82-2006545.pdf?src-supplier=Digi-Key; ComponentLink2Description: https://datasheet.ciiva.com/2006/lm4040d82-2006545.pdf?src-supplier=Digi-Key; ComponentLink3URL: https://datasheet.ciiva.com/46397/1887470-46397656.pdf?src-supplier=Element14; ComponentLink3Description: https://datasheet.ciiva.com/46397/1887470-46397656.pdf?src-supplier=Element14; ComponentLink4URL: https://datasheet.ciiva.com/14198/slos456k-14198397.pdf?src-supplier=Avnet; ComponentLink4Description: https://datasheet.ciiva.com/14198/slos456k-14198397.pdf?src-supplier=Avnet; ComponentLink5URL: https://datasheet.ciiva.com/2006/lm4040d82-2006543.pdf?src-supplier=Digi-Key; ComponentLink5Description: https://datasheet.ciiva.com/2006/lm4040d82-2006543.pdf?src-supplier=Digi-Key
footprint DBZ0003A_L (SOT23, 3-Leads, Body 3.04x1.4mm, Pitch 0.95mm, IPC High Density)
footprint DBZ0003A_M (SOT23, 3-Leads, Body 3.04x1.4mm, Pitch 0.95mm, IPC Low Density)
footprint DBZ0003A_N (SOT23, 3-Leads, Body 3.04x1.4mm, Pitch 0.95mm, IPC Medium Density)
pins: 1 +V, 2 -V, 3 NC

## MMSZ4694-E3-08
designator D?  Supplier Part Number 1: 78-MMSZ4694-E3-08  (hidden comment: *)
Diode Zener Single 8.2V 5% 500mW 2-Pin SOD-123 T/R; Manufacturer: Vishay; Manufacturer Part Number: MMSZ4694-E3-08; Max Reverse Leakage Current: 1uA; Supplier 1: Mouser; RoHS: Yes; Category: Zener Diodes; Stock 1: 14440; Pricing 1: 1=0,23000, 10=0,18200, 100=0,08200, 500=0,06900, 1000=0,04700, 3000=0,03700 (USD); Mount: Surface Mount; Case/Package: SOD-123-2; Number of Pins: 2; Weight: 0.000363oz; Min Operating Temperature: -55°C; Max Operating Temperature: 150°C; Max Power Dissipation: 500mW; Zener Voltage: 8.2V; Element Configuration: Single; Packaging: Tape and Reel; Package Quantity: 3000; Voltage Tolerance: 5%; Zener Current: 1uA; Tolerance: 5%; Radiation Hardening: No; ComponentLink1URL: https://datasheet.ciiva.com/28422/mmsz4681-28422855.pdf?src-supplier=Avnet+Europe; ComponentLink1Description: https://datasheet.ciiva.com/28422/mmsz4681-28422855.pdf?src-supplier=Avnet+Europe
footprint SOD-123 (SOD, 2-Leads, Body 1.55x3.70mm, IPC Medium Density)
pins: 1, 2

## PLZ12A-HG3
designator D?, comment 12V 0.5W  Supplier Part Number 2: 78-PLZ12A-HG3/H
Zener Diodes Vz @Izt 11.13-11.71V AEC-Q101 Qualified; Supplier 1: Mouser; Supplier 2: Mouser
footprint DO-219AC
pins: 1, 2

## RBR2MM40ATR
designator *  Supplier Part Number 1: 755-RBR2MM40ATR  (hidden comment: *)
DIODE SCHOTTKY 40V 2A PMDU; Manufacturer: Rohm; Manufacturer Part Number: RBR2MM40ATR; Supplier 1: Mouser; RoHS: Yes; Category: Rectifier Diodes; Stock 1: 3611; Pricing 1: 1=0,38000, 10=0,29300, 100=0,15900, 1000=0,11900, 3000=0,11000, 9000=0,11000 (USD); Mount: Surface Mount; Packaging: Tape and Reel; Average Rectified Current: 2A; Max Reverse Voltage (DC): 40V; ComponentLink1URL: http://www.mouser.com/ds/2/348/rbr2mm40a-e-1017268.pdf?src-supplier=Mouser; ComponentLink1Description: http://www.mouser.com/ds/2/348/rbr2mm40a-e-1017268.pdf?src-supplier=Mouser; ComponentLink2URL: http://rohmfs.rohm.com/en/techdata_basic/diode/taping/Taping_PMDU(M)_TR-e.pdf?src-supplier=Digi-Key; ComponentLink2Description: http://rohmfs.rohm.com/en/techdata_basic/diode/taping/Taping_PMDU(M)_TR-e.pdf?src-supplier=Digi-Key; ComponentLink3URL: http://www.rohm.com/web/global/datasheet/RBR2MM40A/rbr2mm40atr-e?src-supplier=Digi-Key; ComponentLink3Description: http://www.rohm.com/web/global/datasheet/RBR2MM40A/rbr2mm40atr-e?src-supplier=Digi-Key
footprint SOD-123-2-425-04_V (SOD, 2-Leads, Body 2.69x1.6mm)
pins: 1, 2

## REF3030AIDBZR
designator U?  Supplier Part Number 1: 595-REF3030AIDBZR
IC VREF SERIES 3V SOT23-3; Manufacturer: Texas Instruments; Manufacturer Part Number: REF3030AIDBZR; Min Input Voltage: 3.001V; Max Input Voltage: 5.5V; Tolerance: 0.2%; Max Output Current: 25mA; Temperature Coefficient: 50ppm/°C; Operating Supply Current: 50uA; Quiescent Current: 42uA; Output Type: Fixed; Number of Channels: 1; Supplier 1: Mouser; RoHS: Yes; Category: Voltage References; Stock 1: 16293; Pricing 1: 1=1,39000, 10=1,18000, 100=0,90800, 500=0,80200, 1000=0,63300, 3000=0,56200 (USD); Case/Package: SOT-23; Number of Pins: 3; Min Operating Temperature: -40°C; Max Operating Temperature: 125°C; Output Voltage: 3V; Packaging: Tape and Reel; Package Quantity: 1; Min Output Voltage: 3V; Output Current: 25mA; Max Supply Current: 50uA; Reference Voltage: 3V; Reference Type: Series; Nominal Supply Current: 42uA; Max Output Voltage: 3V; Radiation Hardening: No; REACH SVHC: No SVHC; Lead Free: Lead Free; ComponentLink1URL: https://datasheet.ciiva.com/2006/ref3012-2006864.pdf?src-supplier=Digi-Key; ComponentLink1Description: https://datasheet.ciiva.com/2006/ref3012-2006864.pdf?src-supplier=Digi-Key; ComponentLink2URL: https://datasheet.ciiva.com/26889/ref3030aidbzr-26889824.pdf?src-supplier=IIIC; ComponentLink2Description: https://datasheet.ciiva.com/26889/ref3030aidbzr-26889824.pdf?src-supplier=IIIC; ComponentLink3URL: https://datasheet.ciiva.com/2006/ref3012-2006865.pdf?src-supplier=Digi-Key; ComponentLink3Description: https://datasheet.ciiva.com/2006/ref3012-2006865.pdf?src-supplier=Digi-Key; ComponentLink4URL: https://datasheet.ciiva.com/2006/ref3012-2006866.pdf?src-supplier=Digi-Key; ComponentLink4Description: https://datasheet.ciiva.com/2006/ref3012-2006866.pdf?src-supplier=Digi-Key; ComponentLink5URL: https://datasheet.ciiva.com/3235/ref3040-3235542.pdf?src-supplier=Avnet; ComponentLink5Description: https://datasheet.ciiva.com/3235/ref3040-3235542.pdf?src-supplier=Avnet; ComponentLink6URL: https://datasheet.ciiva.com/26066/ref3040-26066524.pdf?src-supplier=Avnet+Europe; ComponentLink6Description: https://datasheet.ciiva.com/26066/ref3040-26066524.pdf?src-supplier=Avnet+Europe
footprint DBZ0003A_L (SOT23, 3-Leads, Body 3.04x1.4mm, Pitch 0.95mm, IPC High Density)
footprint DBZ0003A_M (SOT23, 3-Leads, Body 3.04x1.4mm, Pitch 0.95mm, IPC Low Density)
footprint DBZ0003A_N (SOT23, 3-Leads, Body 3.04x1.4mm, Pitch 0.95mm, IPC Medium Density)
pins: 1 IN (power), 2 OUT (power), 3 GND (power)

## RGB LED SLV6A
designator D?
Cree SLV6A
pins: 1 C1, 2 C2, 3 C3, 4 A3, 5 A2, 6 A1

## SL210PL-TP
designator D?, comment 100V 2A  Supplier Part Number 1: 833-SL210PL-TP
DIODE SCHOTTKY 100V 2A SOD123FL; Manufacturer: MCC; Manufacturer Part Number: SL210PL-TP; Supplier 1: Mouser; RoHS: Yes; Category: Rectifier Diodes; Stock 1: 5795; Pricing 1: 1=0,40000, 10=0,30000, 100=0,18500, 500=0,12800, 1000=0,09800, 2500=0,08100, 10000=0,07400, 25000=0,06900, 50000=0,06700 (USD); Mount: Surface Mount; Packaging: Tape and Reel; Average Rectified Current: 2A; Max Reverse Voltage (DC): 100V; ComponentLink1URL: http://www.mccsemi.com/up_pdf/SL24PL-SL210PL(SOD-123FL)-A.pdf?src-supplier=Digi-Key; ComponentLink1Description: http://www.mccsemi.com/up_pdf/SL24PL-SL210PL(SOD-123FL)-A.pdf?src-supplier=Digi-Key
footprint SOD-123-2-425-04_V (SOD, 2-Leads, Body 2.69x1.6mm)
pins: 1, 2

## SMBJ5371B-TP
designator D?, comment 60 V 5W  Supplier Part Number 2: 833-SMBJ5371B-TP
Diode Zener 60V 5W DO214AA; Manufacturer: MCC; Manufacturer Part Number: SMBJ5371B-TP; Tolerance: 5%; Impedance: 40R; Supplier 1: Mouser; Supplier 2: Mouser; Category: Zener Diodes; Stock 2: 10765; Pricing 2: 1=0,61000, 10=0,50400, 100=0,36600, 250=0,35300, 500=0,30600, 1000=0,26000 (USD); Mount: Surface Mount; Min Operating Temperature: -55°C; Max Operating Temperature: 150°C; Packaging: Tape and Reel; Package Quantity: 3000; Zener Voltage: 60V; Max Power Dissipation: 5W; ComponentLink1URL: https://datasheet.ciiva.com/6389/smbj5338b-smbj5388bsmb-6389800.pdf?src-supplier=Digi-Key; ComponentLink1Description: https://datasheet.ciiva.com/6389/smbj5338b-smbj5388bsmb-6389800.pdf?src-supplier=Digi-Key; ComponentLink2URL: https://datasheet.ciiva.com/6389/smbj5338b-smbj5388bsmb-6389803.pdf?src-supplier=Digi-Key; ComponentLink2Description: https://datasheet.ciiva.com/6389/smbj5338b-smbj5388bsmb-6389803.pdf?src-supplier=Digi-Key; ComponentLink3URL: https://datasheet.ciiva.com/6389/smbj5338b-smbj5388bsmb-6389805.pdf?src-supplier=Digi-Key; ComponentLink3Description: https://datasheet.ciiva.com/6389/smbj5338b-smbj5388bsmb-6389805.pdf?src-supplier=Digi-Key
footprint DO214AA SMB (Molded Diode, 2-Leads, Body 4.31x3.62mm, IPC Medium Density)
pins: 1, 2

## TVS1400DRVR
designator U?  Supplier Part Number 1: 595-TVS1400DRVR
UNIDIR PRECISION SURGE DIODE; Manufacturer: Texas Instruments; Manufacturer Part Number: TVS1400DRVR; Number of Channels: 1; Supplier 1: Mouser; RoHS: No; Stock 1: 5409; Pricing 1: 1=0,61000, 10=0,51000, 100=0,31100, 1000=0,24000, 3000=0,20500, 9000=0,19100, 24000=0,18100, 45000=0,17700, 99000=0,17000 (USD); Min Operating Temperature: -40°C; Max Operating Temperature: 125°C; ComponentLink1URL: http://www.ti.com/lit/ds/symlink/tvs1400.pdf?src-supplier=Digi-Key; ComponentLink1Description: http://www.ti.com/lit/ds/symlink/tvs1400.pdf?src-supplier=Digi-Key
footprint WSON-6
pins: 1 GND, 2 GND, 3 GND, 4 IN, 5 IN, 6 IN, 7 PAD